# Altium footprint library V1.PcbLib: 22 footprints (part 2 of 2)
Each footprint in its own frame and in the unit in brackets; x right, y up, seen from the top. Pads: shape width x height; smd on the part's side, far side on the other; paste and mask are expansions set on the pad; w line width, h text height; cw(c..) or ccw(c..) is an arc to the next point about the centre after c.
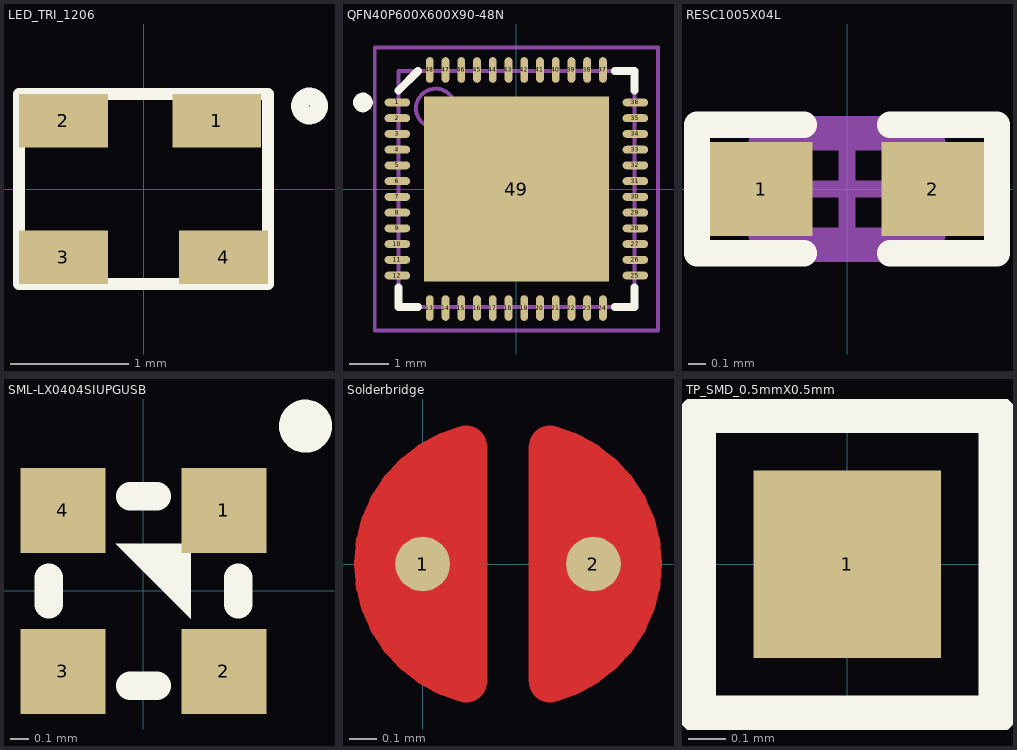
[diagram p1: the footprints below, top view; thin cyan lines are the x and y axes]

## LED_TRI_1206 [mm]
pads (4):
  rect 0.75x0.45 smd: 1(0.617,0.575) 2(-0.675,0.575) 3(-0.675,-0.575) 4(0.675,-0.575)
Top Overlay:
  circle w0.15: c1.4,0.7 r0.08
  lines w0.1: -1.05,-0.8 -1.05,0.8 1.05,0.8 1.05,-0.8 -1.05,-0.8
3D body: height 0.28, standoff 0.18, extent 0.43,-0.15 0.73,0.15
3D body: height 0.28, standoff 0.18, extent -0.77,-0.15 -0.47,0.15
3D body: height 0.28, standoff 0.18, extent -0.15,-0.15 0.15,0.15
3D body: height 0.37, standoff 0.18, extent -1.05,-0.67 1.05,0.57
3D body: height 0.18, standoff 0, extent -1.05,-0.8 1.05,0.8

## QFN40P600X600X90-48N [mm]
pads (49):
  oval 0.65x0.2 smd: 1(-3.025,2.2) 2(-3.025,1.8) 3(-3.025,1.4) 4(-3.025,1) 5(-3.025,0.6) 6(-3.025,0.2) 7(-3.025,-0.2) 8(-3.025,-0.6) 9(-3.025,-1) 10(-3.025,-1.4) 11(-3.025,-1.8) 12(-3.025,-2.2) 25(3.025,-2.2) 26(3.025,-1.8) 27(3.025,-1.4) 28(3.025,-1) 29(3.025,-0.6) 30(3.025,-0.2) 31(3.025,0.2) 32(3.025,0.6) 33(3.025,1) 34(3.025,1.4) 35(3.025,1.8) 36(3.025,2.2)
  oval 0.2x0.65 smd: 13(-2.2,-3.025) 14(-1.8,-3.025) 15(-1.4,-3.025) 16(-1,-3.025) 17(-0.6,-3.025) 18(-0.2,-3.025) 19(0.2,-3.025) 20(0.6,-3.025) 21(1,-3.025) 22(1.4,-3.025) 23(1.8,-3.025) 24(2.2,-3.025) 37(2.2,3.025) 38(1.8,3.025) 39(1.4,3.025) 40(1,3.025) 41(0.6,3.025) 42(0.2,3.025) 43(-0.2,3.025) 44(-0.6,3.025) 45(-1,3.025) 46(-1.4,3.025) 47(-1.8,3.025) 48(-2.2,3.025)
  rect 4.7x4.7 smd: 49(0,0)
Top Overlay:
  circle w0.25: c-3.9,2.2 r0.125
  lines w0.2: -3,-2.5 -3,-3 -2.5,-3 ; -3,2.5 -2.5,3 ; 2.5,-3 3,-3 3,-2.5 ; 2.5,3 3,3 3,2.5
Mechanical 13:
  circle w0.1: c-2.05,2.05 r0.5
  lines w0.1: -3,-3 -3,3 3,3 3,-3 -3,-3
Mechanical 15:
  lines w0.1: -0.5,0 0.5,0 ; 0,-0.5 0,0.5 ; -3.6,-3.6 -3.6,3.6 3.6,3.6 3.6,-3.6 -3.6,-3.6
3D body: height 0.9, standoff 0, extent -3,-3 3,3

## RESC1005X04L [mm]
pads (2):
  rect 0.6x0.55 smd: 1(-0.5,0) 2(0.5,0)
Top Overlay:
  lines w0.152: -0.25,-0.375 -0.875,-0.375 -0.875,0.375 -0.25,0.375 ; 0.25,-0.375 0.875,-0.375 0.875,0.375 0.25,0.375
Mechanical 13:
  lines w0.1: -0.525,-0.275 -0.525,0.275 0.525,0.275 0.525,-0.275 -0.525,-0.275
Mechanical 15:
  lines w0.1: -0.275,0 0.275,0 ; 0,-0.275 0,0.275 ; -0.875,-0.375 0.875,-0.375 0.875,0.375 -0.875,0.375 -0.875,-0.375
3D body: height 0.3, standoff 0, extent -0.5,-0.25 0.5,0.25

## SML-LX0404SIUPGUSB [mm]
pads (4):
  rect 0.45x0.45 smd paste+0: 1(0.425,0.425) 2(0.425,-0.425) 3(-0.425,-0.425) 4(-0.425,0.425)
Top Overlay:
  circle w0.152: c0.856,0.87 r0.064
  region: 0.25,0.25 -0.146,0.25 0.25,-0.146
  lines w0.15: -0.5,-0.07 -0.5,0.07 ; -0.07,-0.5 0.07,-0.5 ; -0.07,0.5 0.07,0.5 ; 0.5,-0.07 0.5,0.07
3D body: height 0.13, standoff 0, extent -0.495,-0.495 0.495,0.495
3D body: height 0.2, standoff 0.15, extent -0.135,-0.185 0.14,-0.075
3D body: height 0.2, standoff 0.15, extent -0.135,0.075 0.14,0.185
3D body: height 0.2, standoff 0.15, extent -0.185,-0.055 0.185,0.055
3D body: height 0.25, standoff 0.15, extent -0.5,-0.35 0.5,0.35
3D body: height 0.15, standoff 0.13, extent -0.5,-0.35 0.5,0.35
3D body: height 0.15, standoff 0.12, extent 0.2,-0.5 0.5,-0.2
3D body: height 0.15, standoff 0.12, extent -0.5,-0.5 -0.2,-0.2
3D body: height 0.15, standoff 0.12, extent -0.5,0.2 -0.2,0.5
3D body: height 0.15, standoff 0.12, extent 0.2,0.2 0.5,0.5
3D body: height 0.12, standoff 0, extent -0.5,-0.5 0.5,0.5

## Solderbridge [mm]
pads (2):
  round 0.2 smd paste-10: 1(0,0) 2(0.625,0)
Top Layer:
  region: 0.236,-0.432 0.16,-0.505 0.042,-0.467 -0.023,-0.424 -0.097,-0.351 -0.15,-0.292 -0.208,-0.193 -0.236,-0.099 -0.231,0.122 -0.206,0.193 -0.122,0.33 -0.038,0.411 0.054,0.469 0.155,0.5 0.206,0.483 0.236,0.43
  region: 0.389,0.432 0.465,0.505 0.583,0.467 0.648,0.424 0.721,0.351 0.775,0.292 0.833,0.193 0.861,0.099 0.856,-0.122 0.831,-0.193 0.747,-0.33 0.663,-0.411 0.571,-0.469 0.47,-0.5 0.419,-0.483 0.389,-0.43
  lines w0.152: 0.159,-0.431 cw(c0.27,0) 0.159,0.431 ; 0.465,-0.431 ccw(c0.355,0) 0.465,0.431
Top Solder:
  circle w0.61: c0.31,0 r0.279

## TP_SMD_0.5mmX0.5mm [mm]
pads (1):
  rect 0.5x0.5 smd: 1(0,0)
Top Overlay:
  lines w0.1: -0.4,-0.4 0.4,-0.4 0.4,0.4 -0.4,0.4 -0.4,-0.4